# EAGLE library part JTI_CLP_FIL (library JohansonTech-U)
JTI 10dB CPLR/FILTER
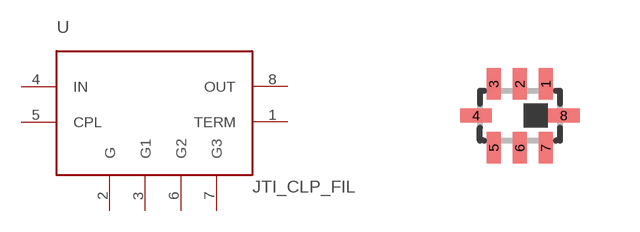
[diagram p0: symbol with the pads of JTICPL; footprint JTICPL]

Designator prefix -

## JTI_CLP_FIL  [JTICPL]
1  TERM
2  G
3  G1
4  IN
5  CPL
6  G2
7  G3
8  OUT

## Footprint JTICPL (pad centres in mm)
1.9.17 Jara: opraveny pady (pozice a rozmery), rozmer pouzdra + plosky do tdocu, NAME rozmery dle DSH 0910CF15B0100E-Coupler_Filter*.pdf krome: -plošky mají v DSH 0,3x0,3mm ale fyzizky jsou asi 0,3x0,2 s zakulacenymi rozky smerem do vnitr (skoro polokrouzek) takze jsem je namaloval 0,2x0,3, kdyby byly 0,3x0,3 tak tam neni ani dost mezera -v DSH mají smerem ven jeste o cca 0,2mm delsi nez jsem nakreslil protoze to jak by dle DSH mely pady trcet je dost absurdni
smd 0.35 x 0.799: 1 0.65,0.8; 2 0,0.8; 3 -0.65,0.8; 5 -0.65,-0.8; 6 0,-0.8; 7 0.65,-0.8
smd 0.799 x 0.35: 4 -1.1,0; 8 1.1,0